# Altium schematic symbol library 2026-03-15_19-12-54.SchLib: 1 symbol
Pins are listed as number, name and electrical type; pins without a type are passive.

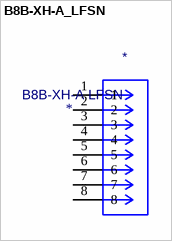
[diagram p0: symbol B8B-XH-A_LFSN]

## B8B-XH-A_LFSN
designator *  value B8B-XH-A LFSN
ki_keywords: B8B-XH-A (LF)(SN); ki_fp_filters: CONN_B8B-XH-A_JST; Footprint: CONN_B8B-XH-A_JST; Supplier: B8B-XH-A LFSN
footprint CONN_B8B-XH-A_JST
pins: 1, 2, 3, 4, 5, 6, 7, 8
1 alternate drawing of the same symbol